# Altium schematic symbol library trafo.SchLib: 4 symbols
Pins are listed as number, name and electrical type; pins without a type are passive.

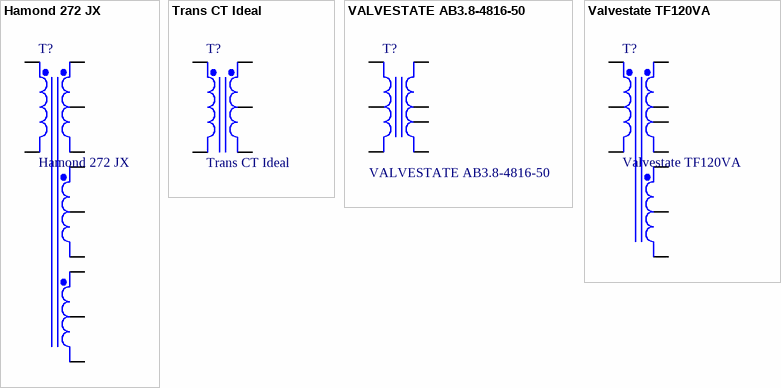
[diagram p0: symbols Hamond 272 JX to Valvestate TF120VA]

## Hamond 272 JX
designator T?
Hammond 272 JX; Published: 29-Mar-2014; LatestRevisionDate: 29-Mar-2014; LatestRevisionNote: Construção do Trafo Hammond para Bassman 5F6A; PackageReference: TRF_10; Publisher: LINDA Hand Built Amplifiers; PackageDescription: Transformer; 10Leads
footprint TRF_5 (Transformer; 5 Leads)
simulation model IDEALTRANSCT (Spice Subcircuit)
pins: 1 Pri+, 2 Pri-, 3 Sec+ 320V, 4 SecCT, 5 Sec- 320, 6 5V+ YLW, 6 6.3V CT, 7 5V TAP, 7 6.3V -, 8 5V- YLW, 9 6.3V +

## Trans CT Ideal
designator T?
Center-Tapped Transformer (Ideal); Published: 8-Jun-2000; LatestRevisionDate: 17-Jul-2002; LatestRevisionNote: Re-released for DXP Platform.; PackageReference: TRF_5; Publisher: Altium Limited; PackageDescription: Transformer; 5 Leads
footprint TRF_5 (Transformer; 5 Leads)
simulation model IDEALTRANSCT (Spice Subcircuit)
pins: 1 Pri+, 2 Pri-, 3 Sec+, 4 SecCT, 5 Sec-

## VALVESTATE AB3.8-4816-50
designator T?, comment Output Transformer  (value not drawn)  (mechanical)
VALVESTATE AB3.8-4816-50; Published: 29-Mar-2014; LatestRevisionDate: 29-Mar-2014; LatestRevisionNote: Construção do Trafo Hammond para Bassman 5F6A; PackageReference: TRF_10; Publisher: LINDA Hand Built Amplifiers; PackageDescription: Transformer; 10Leads; PartNumber: VALVESTATE AB3.8-4816-50
footprint VALVESTATE-AB3.8-4816-50 (Transformer; 7 Leads)
simulation model IDEALTRANSCT (Spice Subcircuit)
pins: 1 A1, 2 B+, 3 A2, 4 16 omhs, 5 8 ohms, 6 4 ohms, 7 Common

## Valvestate TF120VA
designator T?
VALVESTATE TF 120VA; Published: 29-Mar-2014; LatestRevisionDate: 29-Mar-2014; LatestRevisionNote: Construção do Trafo Hammond para Bassman 5F6A; PackageReference: TRF_10; Publisher: LINDA Hand Built Amplifiers; PackageDescription: Transformer; 10Leads
footprint TRF_10 (Transformer; 8 Leads)
simulation model IDEALTRANSCT (Spice Subcircuit)
pins: 1 Pri+220V, 2 Pri+ 127V, 3 Pri-, 4 Sec 355V +, 5 SEC CT, 6 Sec 55V +, 7 Sec 355V -, 8 3.15V+ , 9 3.15V CT, 10 3.15V - 